# Altium footprint library FP-THD-Passive.PcbLib: 8 footprints
Each footprint in its own frame and in the unit in brackets; x right, y up, seen from the top. Pads: shape width x height; smd on the part's side, far side on the other; paste and mask are expansions set on the pad; w line width, h text height; cw(c..) or ccw(c..) is an arc to the next point about the centre after c.
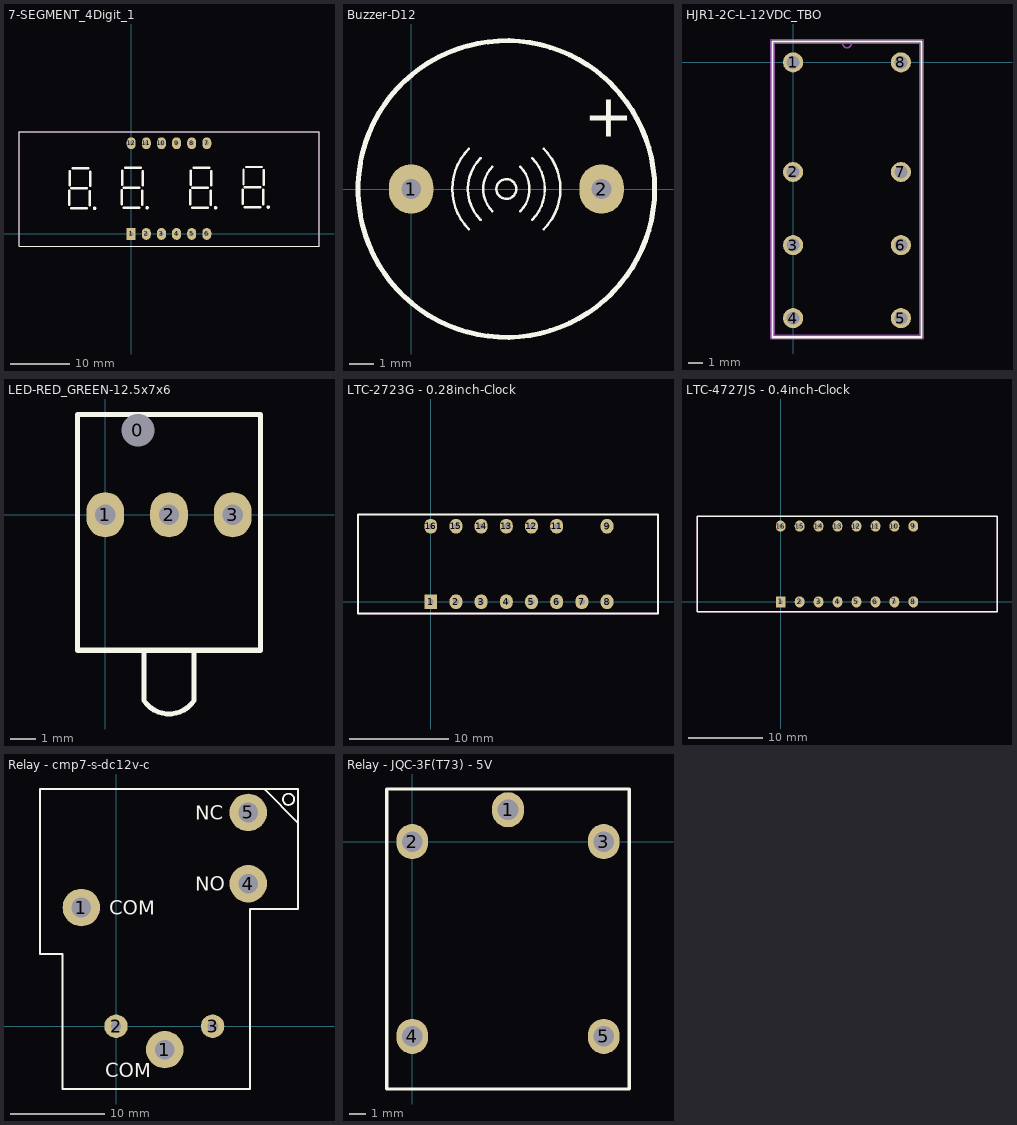
[diagram p0: the footprints below, top view; thin cyan lines are the x and y axes]

## 7-SEGMENT_4Digit_1 [mm] "4 DIGIT 7 SEGMENT"
pads (12):
  rect 1.5x2 hole 0.7: 1(0,0)
  oval 1.5x2 hole 0.7: 2(2.54,0) 3(5.08,0) 4(7.62,0) 5(10.16,0) 6(12.7,0) 7(12.7,15.24) 8(10.16,15.24) 9(7.62,15.24) 10(5.08,15.24) 11(2.54,15.24) 12(0,15.24)
Top Overlay:
  circle w0.3: c23.017,4.513 r0.15
  circle w0.3: c14.187,4.403 r0.15
  circle w0.3: c2.677,4.403 r0.15
  circle w0.3: c-6.153,4.293 r0.15
  lines w0.2: -18.85,-2.06 -18.85,17.16 31.55,17.16 31.55,-2.06 -18.85,-2.06
  lines w0.4: -10.403,4.853 -10.403,7.253 ; -10.313,8.153 -10.313,10.553 ; -10.063,4.293 -7.453,4.293 ; -10.063,7.653 -7.453,7.653 ; -9.853,11.033 -7.243,11.033 ; -6.993,4.773 -6.993,7.173 ; -6.903,8.073 -6.903,10.473 ; -1.573,4.963 -1.573,7.363 ; -1.483,8.263 -1.483,10.663 ; -1.233,4.403 1.377,4.403 ; -1.233,7.763 1.377,7.763 ; -1.023,11.143 1.587,11.143 ; 1.837,4.883 1.837,7.283 ; 1.927,8.183 1.927,10.583 ; 9.937,4.963 9.937,7.363 ; 10.027,8.263 10.027,10.663 ; 10.277,4.403 12.887,4.403 ; 10.277,7.763 12.887,7.763 ; 10.487,11.143 13.097,11.143 ; 13.347,4.883 13.347,7.283 ; 13.437,8.183 13.437,10.583 ; 18.767,5.073 18.767,7.473 ; 18.857,8.373 18.857,10.773 ; 19.107,4.513 21.717,4.513 ; 19.107,7.873 21.717,7.873 ; 19.317,11.253 21.927,11.253 ; 22.177,4.993 22.177,7.393 ; 22.267,8.293 22.267,10.693
Top Assembly:
  lines w0.1: -18.85,-2.06 -18.85,17.16 31.55,17.16 31.55,-2.06 -18.85,-2.06
  text "'.Designator'" at 1.056,6.985 h1.52
3D body "7-Segment Display 4-Digit (5641).step": height 8.1, standoff -1.95, extent -18.8,-1.95 31.5,17.05

## Buzzer-D12 [mm]
pads (2):
  oval 1.8x2 hole 0.8 unplated: 1(0,0) 2(7.7,0)
Top Overlay:
  circle w0.1: c3.85,0 r0.4
  circle w0.2: c3.85,0 r6
  lines w0.1: 2.337,-1.625 cw(c3.962,0) 2.337,1.625 ; 2.809,-1.25 cw(c4.059,0) 2.809,1.25 ; 3.286,-0.9 cw(c4.186,0) 3.286,0.9 ; 4.414,-0.9 ccw(c3.514,0) 4.414,0.9 ; 4.891,-1.25 ccw(c3.641,0) 4.891,1.25 ; 5.363,-1.625 ccw(c3.738,0) 5.363,1.625
  text "+" at 6.985,1.524 h3
Top Assembly:
  circle w0.1: c3.85,0 r6
  text "'.Designator'" at 4.104,0.762 h1.52
  text "+" at 6.985,1.778 h1.5
Top Courtyard:
  lines w0.1: -0.5,0 0.5,0 ; 0,-0.5 0,0.5
3D body "CEM-1212C.STEP": height 8.79, standoff -4.21, extent -2.15,-6 9.85,6

## HJR1-2C-L-12VDC_TBO [mil]
pads (8):
  round 55 hole 35 mask+0: 1(0,0) 2(0,-300) 3(0,-500) 4(0,-700) 5(295.28,-700) 6(295.28,-500) 7(295.28,-300) 8(295.28,0)
Top Overlay:
  lines w6: -56.36,-752.03 351.64,-752.03 351.64,56.97 -56.36,56.97 -56.36,-752.03
Top Assembly:
  lines w3.94: 135.64,51.97 ccw(c147.64,51.97) 159.64,51.97 ; -51.36,-747.03 346.64,-747.03 346.64,51.97 -51.36,51.97 -51.36,-747.03
  text "'.Designator'" at 95,-390.01 h60
Top Courtyard:
  lines w3.94: -61.36,-757.03 356.64,-757.03 356.64,61.97 -61.36,61.97 -61.36,-757.03
3D body "HJR1-2C-L-12VDC_TBO.step": height 476.1, standoff -100, extent -51.38,-747.05 346.65,51.97

## LED-RED_GREEN-12.5x7x6 [mm]
pads (4):
  round 1 hole 1.3: 0(1.303,3.363)
  oval 1.5x1.8 hole 0.8: 1(0,0) 2(2.54,0) 3(5.08,0)
Top Overlay:
  lines w0.2: 1.29,4 -1.11,4 ; 1.54,-5.4 1.54,-7.4 ccw(c2.54,-6.745) 3.54,-7.4 3.54,-5.4 ; -1.11,4 -1.11,-5.4 6.19,-5.4 6.19,4 -1.11,4
Top Assembly:
  lines w0.1: 1.29,4 -1.11,4 ; 1.54,-5.4 1.54,-7.4 ccw(c2.54,-6.745) 3.54,-7.4 3.54,-5.4 ; -1.11,4 -1.11,-5.4 6.19,-5.4 6.19,4 -1.11,4
  text "'.Designator'" at 2.794,0.762 h1.52
3D body "130WDT.STEP": height 5.48, standoff -2.98, extent -0.96,-7.78 6.04,1.27

## LTC-2723G - 0.28inch-Clock [mm]
pads (15):
  rect 1.3x1.5 hole 0.6: 1(0,0)
  oval 1.3x1.5 hole 0.6: 2(2.54,0) 3(5.08,0) 4(7.62,0) 5(10.16,0) 6(12.7,0) 7(15.24,0) 8(17.78,0) 9(17.78,7.62) 11(12.7,7.62) 12(10.16,7.62) 13(7.62,7.62) 14(5.08,7.62) 15(2.54,7.62) 16(0,7.62)
Top Overlay:
  lines w0.2: -7.34,-1.19 -7.34,8.81 22.92,8.81 22.92,-1.19 -7.34,-1.19
Top Assembly:
  lines w0.1: -7.34,-1.19 -7.34,8.81 22.92,8.81 22.92,-1.19 -7.34,-1.19
  text "'.Designator'" at 0.026,3.255 h1.52
3D body "User Library-7seg4digit_028.STEP": height 5.85, standoff -5.65, extent -8.21,-1.24 23.79,8.86

## LTC-4727JS - 0.4inch-Clock [mm]
pads (16):
  rect 1.3x1.5 hole 0.6: 1(0,0)
  oval 1.3x1.5 hole 0.6: 2(2.54,0) 3(5.08,0) 4(7.62,0) 5(10.16,0) 6(12.7,0) 7(15.24,0) 8(17.78,0) 9(17.78,10.16) 10(15.24,10.16) 11(12.7,10.16) 12(10.16,10.16) 13(7.62,10.16) 14(5.08,10.16) 15(2.54,10.16) 16(0,10.16)
Top Overlay:
  lines w0.2: -11.2,-1.32 -11.2,11.48 28.98,11.48 28.98,-1.32 -11.2,-1.32
Top Assembly:
  lines w0.1: -11.2,-1.32 -11.2,11.48 28.98,11.48 28.98,-1.32 -11.2,-1.32
  text "'.Designator'" at 0.661,4.398 h1.52
3D body "User Library-Lite-On LTC-4727JS.step": height 8, standoff -3.9, extent -11.2,-1.32 28.98,11.48

## Relay - cmp7-s-dc12v-c [mm]
pads (6):
  round 4 hole 2.1: 1(-3.7,12.66) 1(5.2,-2.5) 4(14.1,15.2) 5(14.1,22.8)
  round 2.5 hole 1.1: 2(0,0) 3(10.3,0)
Top Overlay:
  circle w0.2: c18.4,24.2 r0.6
  lines w0.2: 15.85,25.25 19.4,21.7 ; -8.1,7.7 -8.1,25.3 19.4,25.3 19.4,12.5 14.3,12.5 14.3,-6.7 -5.7,-6.7 -5.7,7.7 -8.1,7.7
  text "NO" at 8.454,14.438 h1.52
  text "NC" at 8.454,22.038 h1.52
  text "COM" at -1.146,-5.446 h1.52
  text "COM" at -0.746,11.898 h1.52
Top Assembly:
  circle w0.1: c18.4,24.2 r0.6
  lines w0.1: 15.85,25.25 19.4,21.7 ; -8.1,7.7 -5.7,7.7 -5.7,-6.7 14.3,-6.7 14.3,12.5 19.4,12.5 19.4,25.3 -8.1,25.3 -8.1,7.7
  text "'.Designator'" at -1.197,9.856 h1.52
3D body "TIANBO HJQ-15F-S-Z.stp": height 20.35, standoff -3.85, extent -7.8,-6.9 19.4,25.3

## Relay - JQC-3F(T73) - 5V [mm]
pads (5):
  oval 2x2.2 hole 1.3: 1(6,2) 2(0,0) 3(12,0) 4(0,-12.2) 5(12,-12.2)
Top Overlay:
  lines w0.2: -1.6,-15.5 13.6,-15.5 13.6,3.3 -1.6,3.3 -1.6,-15.5
Top Assembly:
  lines w0.1: -1.6,-15.5 13.6,-15.5 13.6,3.3 -1.6,3.3 -1.6,-15.5
  text "'.Designator'" at 6.154,-6.738 h1.52
Top Courtyard:
  lines w0.1: -0.5,0 0.5,0 ; 0,-0.5 0,0.5
3D body "Relay - JQC-3F(T73) - 5V.stp": height 14.94, standoff -3.61, extent -1.544,-15.447 13.544,3.247